# Altium schematic symbol library LDO Linear Regulators.SchLib: 10 symbols
Pins are listed as number, name and electrical type; pins without a type are passive.

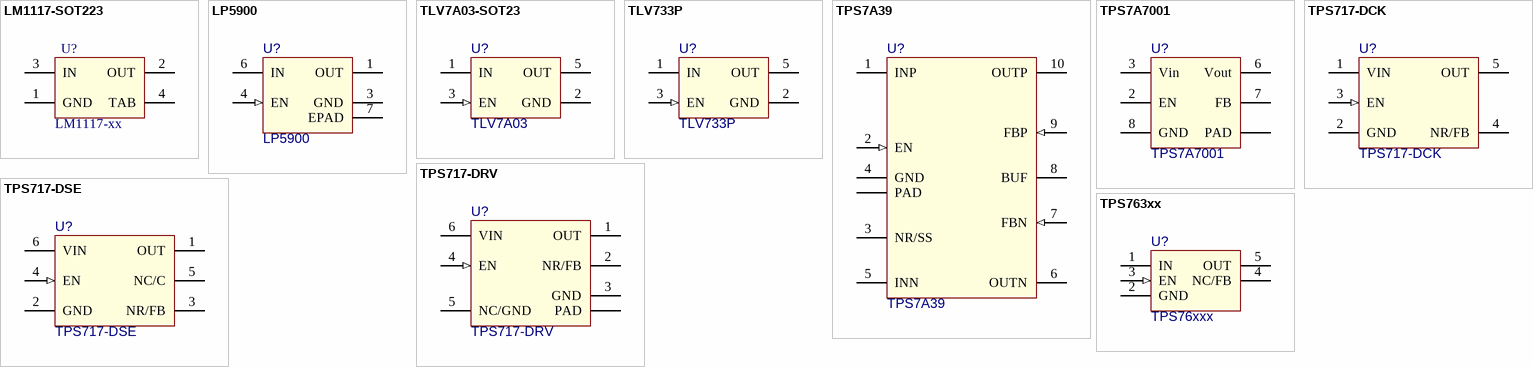
[diagram p0: symbols LM1117-SOT223 to TPS763xx]

## LM1117-SOT223
designator U?  value LM1117-xx  (hidden comment: LM1117-SOT223)
800-mA, Low-Dropout Linear Regulator
footprint SOT-223
pins: 1 GND, 2 OUT, 3 IN, 4 TAB

## LP5900
designator U?
150-mA Ultra-Low-Noise LDO for RF and Analog Circuits - / Requires No Bypass Capacitor; value: LP5900
footprint WSON-6-2.2x2.5 (WSON, 6-Leads, Body 2.20x2.50mm, Pitch 0.65mm, Thermal Pad 1.15x0.75mm, IPC Medium Density)
pins: 1 OUT, 3 GND (power), 4 EN (in), 6 IN (power), 7 EPAD (power)

## TLV7A03-SOT23
designator U?, comment TLV7A03
Nanopower, 250nA IQ, 200mA IOUT, Low-Dropout Regulator With Fast / Transient Response; value: TLV7A03
footprint SOT-23-5 (SOT23, 5-Leads, Body 2.9x1.6mm, Pitch 0.95mm, Lead Span 2.8mm, IPC Medium Density)
pins: 1 IN (power), 2 GND (power), 3 EN (in), 5 OUT (power)

## TLV733P
designator U?
Capacitor-Free, 300-mA, Low-Dropout Regulator with Foldback Current Limit for Portable Devices; value: TLV733P
footprint SOT-23-5 (Footprint not found)
pins: 1 IN (power), 2 GND (power), 3 EN (in), 5 OUT (power)

## TPS7A39
designator U?
Dual, 150-mA, Wide VIN Positive and Negative LDO Voltage Regulator; Value: TPS7A39
footprint VSON-10-3x3 (VSON, 10-Leads, Body 3.00x3.00mm, Pitch 0.50mm, Thermal Pad 2.40x1.65mm, IPC Medium Density)
pins: 1 INP (power), 2 EN (in), 3 NR/SS, 4 GND (power), 5 INN (power), 6 OUTN (power), 7 FBN (in), 8 BUF (power), 9 FBP (in), 10 OUTP (power), 11 PAD (power)

## TPS7A7001
designator U?
Very Low Input, Very Low Dropout, 2-Amp Regulator With Enable; Value: TPS7A7001
footprint SO-8-PAD (Footprint not found)
pins: 2 EN, 3 Vin (power), 6 Vout, 7 FB, 8 GND (power), PAD (power)

## TPS717-DCK
designator U?
Low-Noise, High-Bandwidth PSRR, Low-Dropout, 150-mA Linear Regulator; value: TPS717-Q1
footprint SOT-23-5 (Footprint not found)
pins: 1 VIN (power), 2 GND (power), 3 EN (in), 4 NR/FB, 5 OUT (power)

## TPS717-DRV
designator U?
Low-Noise, High-Bandwidth PSRR, Low-Dropout, 150-mA Linear Regulator; value: TPS717-Q1
footprint WSON-6-2X2 (WSON, 6-Leads, Body 2.00x2.00mm, Pitch 0.65mm, Thermal Pad 0.00x0.00mm, IPC Medium Density)
pins: 1 OUT (power), 2 NR/FB, 3 GND (power), 4 EN (in), 5 NC/GND, 6 VIN (power), 7 PAD (power)

## TPS717-DSE
designator U?
Low-Noise, High-Bandwidth PSRR, Low-Dropout, 150-mA Linear Regulator; value: TPS717-Q1
pins: 1 OUT (power), 2 GND (power), 3 NR/FB, 4 EN (in), 5 NC/C, 6 VIN (power)

## TPS763xx
designator U?  value TPS76xxx
Low-Power, 150-mA, Low-Dropout Linear Regulator
footprint SOT-23-5 (Footprint not found)
pins: 1 IN (power), 2 GND (power), 3 EN (in), 4 NC/FB, 5 OUT (power)